# Altium schematic symbol library 2908-05WB-MG.SchLib: 1 symbol
Pins are listed as number, name and electrical type; pins without a type are passive.

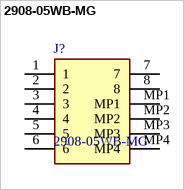
[diagram p0: symbol 2908-05WB-MG]

## 2908-05WB-MG
designator J?
Memory Card Connectors MICROSD 8P P/P SMT POLARIZED; Manufacturer_Name: 3M; Geometry.Height: 1.85mm; Mouser Part Number: 517-2908-05WB-MG; Mouser Price/Stock: https://www.mouser.co.uk/ProductDetail/3M-Electronic-Solutions-Division/2908-05WB-MG?qs=vnwGVgFuQiZPJoOt79ALlw%3D%3D; Manufacturer_Part_Number: 2908-05WB-MG; Datasheet Link: https://componentsearchengine.com/Datasheets/1/2908-05WB-MG.pdf
footprint 290805WBMG
pins: 1, 2, 3, 4, 5, 6, 7, 8, MP1, MP2, MP3, MP4